# Altium schematic symbol library PushBut_Switch.SchLib: 1 symbol
Pins are listed as number, name and electrical type; pins without a type are passive.

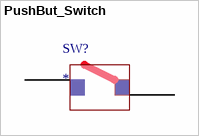
[diagram p0: symbol PushBut_Switch]

## PushBut_Switch
designator SW?
pins: 3, 4